# Altium footprint library PCB1.PcbLib: 10 footprints
Each footprint in its own frame and in the unit in brackets; x right, y up, seen from the top. Pads: shape width x height; smd on the part's side, far side on the other; paste and mask are expansions set on the pad; w line width, h text height; cw(c..) or ccw(c..) is an arc to the next point about the centre after c.
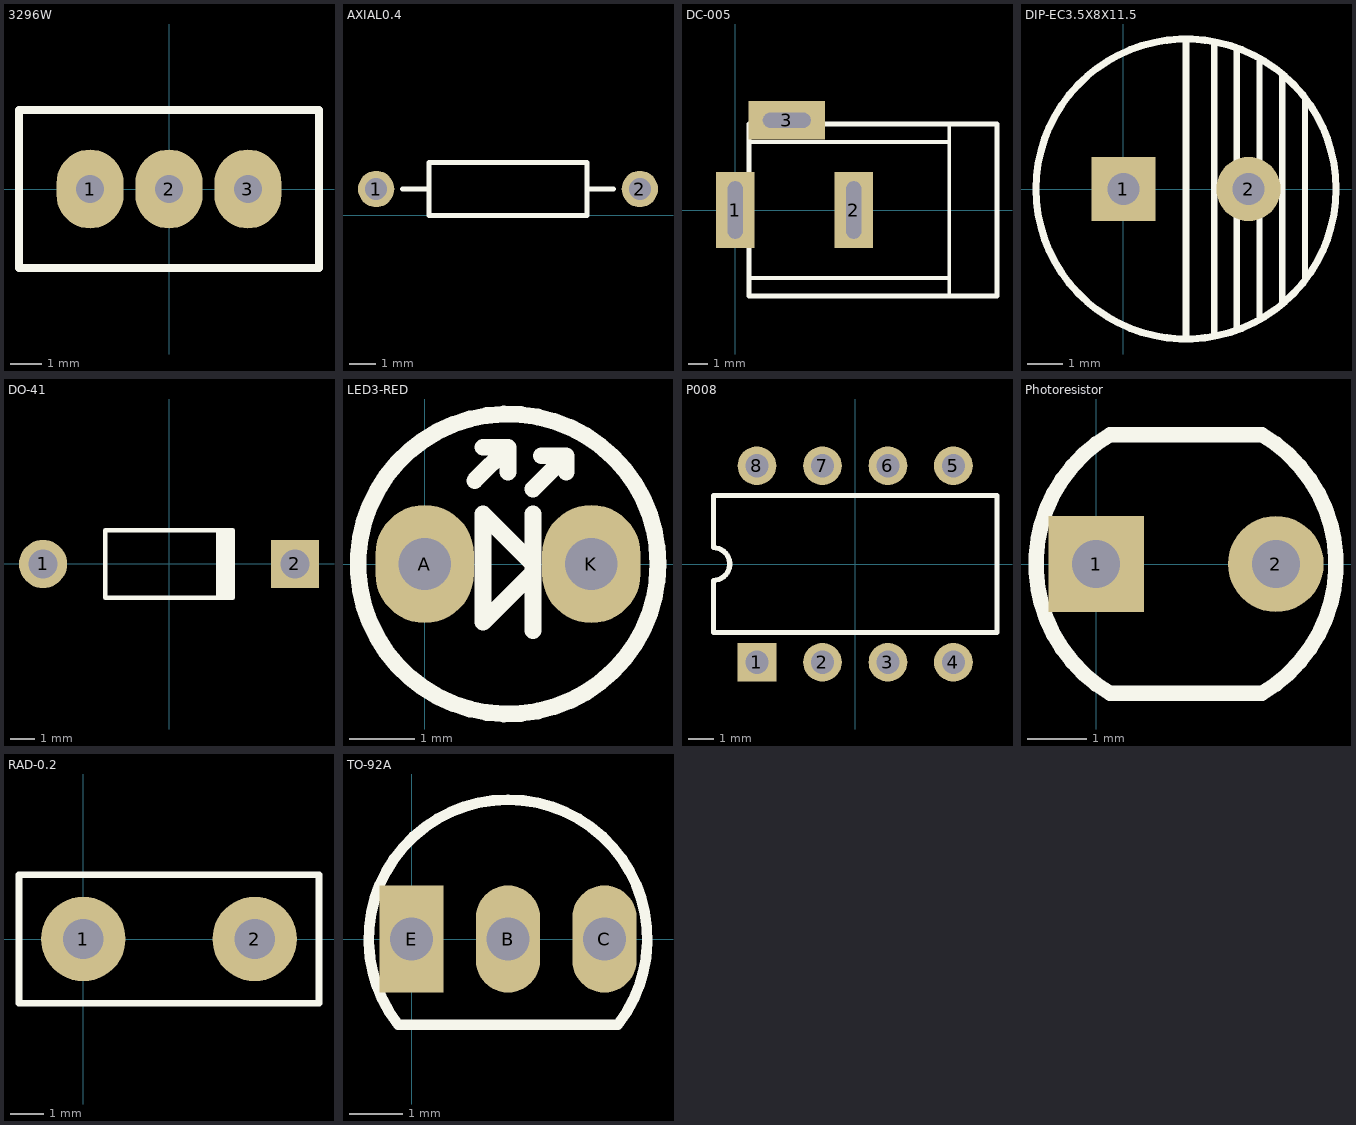
[diagram p0: the footprints below, top view; thin cyan lines are the x and y axes]

## 3296W [mil]
pads (3):
  oval 85x100 hole 35: 1(-100,0) 2(0,0) 3(100,0)
Top Overlay:
  lines w10: -190,-100 190,-100 190,100 -190,100 -190,-100
3D body "User Library-3296W.step": height 454.72, standoff -62.99, extent -187.6,-94.49 187.6,94.49

## AXIAL0.4 [mm] "1/4W/1/2W"
height 2.032
pads (2):
  round 1.4 hole 0.85: 1(3.302,1.016) 2(13.462,1.016)
Top Overlay:
  lines w0.2: 4.318,1.016 5.334,1.016 ; 11.43,1.016 12.446,1.016 ; 5.334,0 11.43,0 11.43,2.032 5.334,2.032 5.334,0
3D body "AXIAL-0.4-0.25W.STEP": height 2.63, standoff -2.64, extent 3.002,-0.244 13.762,2.276

## DC-005 [mm] "5.5X2.1mm"
pads (3):
  rect 2x4 hole 0.8 slot 3 at 90 deg: 1(0,0) 2(6.2,0)
  rect 4x2 hole 0.8 slot 2.5 at 0 deg: 3(2.7,4.7)
Top Overlay:
  lines w0.2: 0.716,-3.556 11.2,-3.556 ; 0.716,3.556 11.2,3.556 ; 11.2,-4.5 11.2,4.5
  lines w0.254: 0.716,-4.5 13.7,-4.5 13.7,4.5 0.716,4.5 0.716,-4.5
3D body "DC-005.STEP": height 11.2, standoff -3.8, extent -0.404,-4.523 13.646,4.777

## DIP-EC3.5X8X11.5 [mm]
pads (2):
  rect 1.8x1.8 hole 0.9: 1(0,0)
  round 1.8 hole 0.9: 2(3.5,0)
Top Overlay:
  circle w0.2: c1.75,0 r4.2
  lines w0.178: 2.54,-4.064 2.54,4.064 ; 3.175,-3.937 3.175,3.937 ; 3.81,-3.556 3.81,3.556 ; 4.445,-3.175 4.445,3.175 ; 5.08,-2.54 5.08,2.54
  lines w0.2: 1.75,-4.191 1.75,4 1.75,4.191
3D body "CAP 3.5X8X11.5.STEP": height 11.53, standoff -3.38, extent -2.255,-3.999 5.755,4

## DO-41 [mm] "Diode, Axial; Body 5.2 x 2.7 mm (LxDia. max), Lead Dia. 0.86 mm (max)"
height 2.8
pads (2):
  round 2 hole 1.2: 1(-5.23,0)
  rect 2x2 hole 1.2: 2(5.23,0)
Top Overlay:
  rectangle: 1.95,-1.401 2.75,1.399
  lines w0.2: 2.65,-1.4 -2.65,-1.4 -2.65,1.4 2.65,1.4
3D body "DO-41.STEP": height 3.3, standoff -2, extent -5.53,-1.3 5.53,1.3

## LED3-RED [mm]
pads (2):
  oval 1.5x1.8 hole 0.8: A(0,0) K(2.54,0)
Top Overlay:
  circle w0.254: c1.27,0 r2.286
  lines w0.254: 0.762,1.27 1.27,1.778 ; 0.889,1.778 1.27,1.778 ; 1.27,1.397 1.27,1.778 ; 1.651,-1.016 1.651,0.762 ; 1.651,1.143 2.159,1.651 ; 1.778,1.651 2.159,1.651 ; 2.159,1.397 2.159,1.651 ; 0.889,-0.889 1.651,-0.127 1.651,0 0.889,0.762 0.889,-0.889
3D body "LED3_RED.STEP": height 5.2, standoff -2, extent -0.74,-2.003 2.78,1.993

## P008 [mm] "DIP; 8 Leads; Row Spacing 7.62 mm; Pitch 2.54 mm"
height 5.08
pads (8):
  rect 1.5x1.5 hole 0.9: 1(-3.81,-3.81)
  round 1.5 hole 0.9: 2(-1.27,-3.81) 3(1.27,-3.81) 4(3.81,-3.81) 5(3.81,3.81) 6(1.27,3.81) 7(-1.27,3.81) 8(-3.81,3.81)
Top Overlay:
  lines w0.2: -5.5,-2.65 -5.5,-0.635 ccw(c-5.5,0) -5.5,0.635 -5.5,2.65 5.5,2.65 5.5,-2.65 -5.5,-2.65
3D body "11297.stp": height 5.08, standoff -3.33, extent -5.08,-5.004 4.953,5.004

## Photoresistor [mm]
pads (2):
  rect 1.6x1.6 hole 0.8: 1(0,0)
  round 1.6 hole 0.8: 2(3,0)
Top Overlay:
  lines w0.254: 0.23,-2.159 cw(c1.5,0) 0.23,2.159 2.77,2.159 cw(c1.5,0) 2.77,-2.159 0.23,-2.159
3D body "RG5528-.STEP": height 1.9, standoff -3.45, extent -1,-2.159 4,2.141

## RAD-0.2 [mm]
pads (2):
  round 2.5 hole 1.2: 1(0,0) 2(5.08,0)
Top Overlay:
  lines w0.2: -1.905,-1.905 6.985,-1.905 6.985,1.905 -1.905,1.905 -1.905,-1.905
3D body "User Library-Ceramic Disc Capacitor 0_2in pitch.STEP": height 7.06, standoff -1.44, extent -0.959,-0.848 6.04,0.848

## TO-92A [mm]
height 5.33
pads (3):
  oval 1.2x2 hole 0.8: B(1.8,0) C(3.6,0)
  rect 1.2x2 hole 0.8: E(0,0)
Top Overlay:
  lines w0.2: -0.249,-1.601 cw(c1.8,0) 3.849,-1.601 ; -0.19,-1.6 3.79,-1.6
3D body "5.STEP": height 6.58, standoff -4.02, extent -0.5,-1.314 4.1,2.286